# EAGLE library part ADS1292 (library ads1292_Dorokhov)
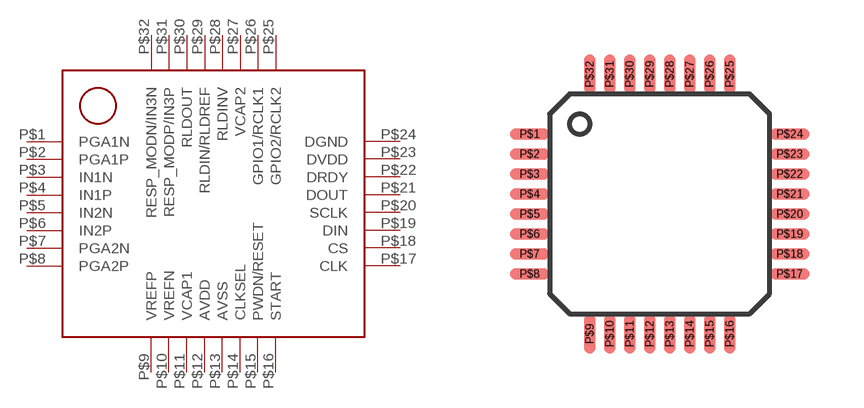
[diagram p0: symbol with the pads of TQFP-32; footprint TQFP-32]

Designator prefix -

## ADS1292TQFP-32  [TQFP-32]
P$1  PGA1N
P$2  PGA1P
P$3  IN1N
P$4  IN1P
P$5  IN2N
P$6  IN2P
P$7  PGA2N
P$8  PGA2P
P$9  VREFP
P$10  VREFN
P$11  VCAP1
P$12  AVDD
P$13  AVSS
P$14  CLKSEL
P$15  PWDN/RESET
P$16  START
P$17  CLK
P$18  CS
P$19  DIN
P$20  SCLK
P$21  DOUT
P$22  DRDY
P$23  DVDD
P$24  DGND
P$25  GPIO2/RCLK2
P$26  GPIO1/RCLK1
P$27  VCAP2
P$28  RLDINV
P$29  RLDIN/RLDREF
P$30  RLDOUT
P$31  RESP_MODP/IN3P
P$32  RESP_MODN/IN3N

## Footprint TQFP-32 (pad centres in mm)
TQFP-32 Package
smd 1 x 0.29: P$1 -3.16,2.5; P$2 -3.16,2; P$3 -3.16,1.5; P$4 -3.16,1; P$5 -3.16,0.5; P$6 -3.16,0; P$7 -3.16,-0.5; P$8 -3.16,-1; P$17 3.34,-1; P$18 3.34,-0.5; P$19 3.34,0; P$20 3.34,0.5; P$21 3.34,1; P$22 3.34,1.5; P$23 3.34,2; P$24 3.34,2.5
smd 0.29 x 1: P$9 -1.66,-2.5; P$10 -1.16,-2.5; P$11 -0.66,-2.5; P$12 -0.16,-2.5; P$13 0.34,-2.5; P$14 0.84,-2.5; P$15 1.34,-2.5; P$16 1.84,-2.5; P$25 1.84,4; P$26 1.34,4; P$27 0.84,4; P$28 0.34,4; P$29 -0.16,4; P$30 -0.66,4; P$31 -1.16,4; P$32 -1.66,4